# Altium footprint library UA78M05CKVURG3.PcbLib: 3 footprints
Each footprint in its own frame and in the unit in brackets; x right, y up, seen from the top. Pads: shape width x height; smd on the part's side, far side on the other; paste and mask are expansions set on the pad; w line width, h text height; cw(c..) or ccw(c..) is an arc to the next point about the centre after c.
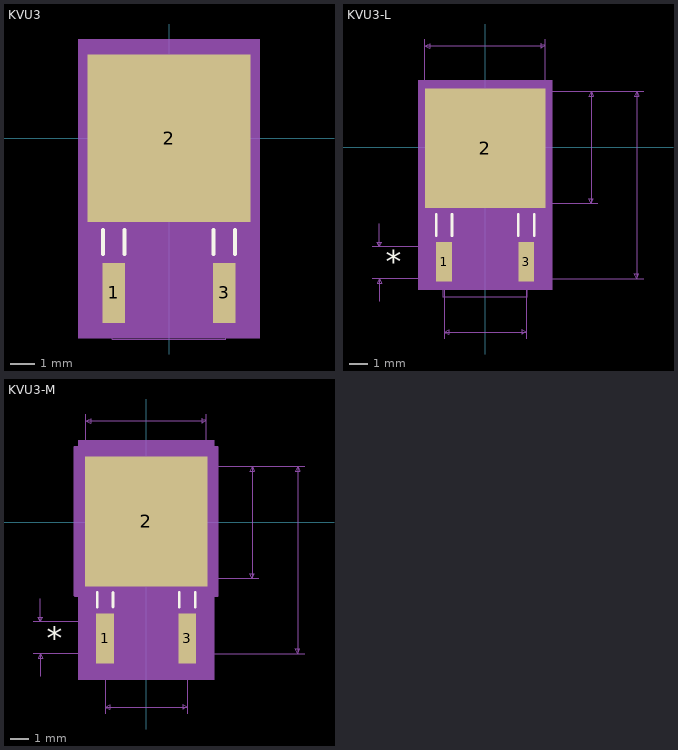
[diagram p0: the footprints below, top view; thin cyan lines are the x and y axes]

## KVU3 [mil]
pads (3):
  rect 37x98 smd paste+0 mask+0: 1(-90,-252.5) 3(90,-252.5)
  rect 266x273 smd paste+0 mask+0: 2(0,0)
Top Overlay:
  lines w6: -107.5,-189.5 -107.5,-149.6 ; -72.5,-189.5 -72.5,-149.6 ; 72.5,-189.5 72.5,-149.6 ; 107.5,-189.5 107.5,-149.6
Mechanical 5:
  region: -148,161.5 148,161.5 148,-326.5 -148,-326.5
Mechanical 13:
  lines w1: -92.5,-122.5 -92.5,-327.5 92.5,-327.5 92.5,-122.5 ; -132,-122.5 -132,122.5 132,122.5 132,-122.5 -132,-122.5 ; -107.5,-287.5 -72.5,-287.5 -72.5,-122.5 -107.5,-122.5 -107.5,-287.5 ; 72.5,-287.5 107.5,-287.5 107.5,-122.5 72.5,-122.5 72.5,-287.5
  text "*" at -102.5,-137.5 h50
Mechanical 15:
  region: -117.5,-146.5 -144,-146.5 -144,146.5 144,146.5 144,-146.5 117.5,-146.5 117.5,-311.5 62.5,-311.5 62.5,-213.5 -62.5,-213.5 -62.5,-311.5 -117.5,-311.5
  lines w6: -144,-146.5 -117.5,-146.5 -117.5,-311.5 -62.5,-311.5 -62.5,-213.5 62.5,-213.5 62.5,-311.5 117.5,-311.5 117.5,-146.5 144,-146.5 144,146.5 -144,146.5 -144,-146.5
3D body: height 10, standoff 0, extent 0,0 10,10

## KVU3-L [mil]
pads (3):
  rect 35x86 smd paste+0 mask+0: 1(-90,-250.5) 3(90,-250.5)
  rect 264x261 smd paste+0 mask+0: 2(0,-2)
Top Overlay:
  lines w6: -107.5,-193.5 -107.5,-146.5 ; -72.5,-193.5 -72.5,-146.5 ; 72.5,-193.5 72.5,-146.5 ; 107.5,-193.5 107.5,-146.5
  text "*" at -217.5,-275.5 h50
Mechanical 5:
  region: -147,147.5 147,147.5 147,-312.5 -147,-312.5
Mechanical 7:
  lines w1: -247,-287.5 0,-287.5 347,-287.5 ; -247,-217.5 0,-217.5 ; -232,-337.5 -232,-287.5 ; -232,-167.5 -232,-217.5 ; -132,0 -132,237.5 ; -90,-420 -90,-205 ; 0,-122.5 247,-122.5 ; 90,-420 90,-205 ; 132,0 132,237.5 ; 247,122.5 0,122.5 347,122.5 ; -232,-287.5 -237,-297.5 -227,-297.5 -232,-287.5 ; -232,-217.5 -237,-207.5 -227,-207.5 -232,-217.5 ; -132,222.5 132,222.5 ; -132,222.5 -122,227.5 -122,217.5 -132,222.5 ; -90,-405 90,-405 ; -90,-405 -80,-400 -80,-410 -90,-405 ; 90,-405 80,-400 80,-410 90,-405 ; 132,222.5 122,227.5 122,217.5 132,222.5 ; 232,-122.5 232,122.5 ; 232,-122.5 227,-112.5 237,-112.5 232,-122.5 ; 232,122.5 227,112.5 237,112.5 232,122.5 ; 332,-287.5 332,122.5 ; 332,-287.5 327,-277.5 337,-277.5 332,-287.5 ; 332,122.5 327,112.5 337,112.5 332,122.5
  text "Default Padstyle: RX35Y86D0T" at -350,-637.5 h50
  text "Large Padstyle: RX264Y261D0T" at -350,-712.5 h50
  text "Alt 1 Padstyle: OX60Y90D30P" at -337.5,-787.5 h50
  text "Alt 2 Padstyle: OX90Y60D30P" at -337.5,-862.5 h50
  text "0.245in/6.223mm" at 252,-12.5 h25
  text "0.264in/6.706mm" at -93.75,242.5 h25
  text "0.41in/10.414mm" at 352,-140.5 h25
  text "0.07in/1.778mm" at -427,-265 h25
  text "0.18in/4.572mm" at -87.5,-450 h25
Mechanical 13:
  lines w1: -92.5,-122.5 -92.5,-327.5 92.5,-327.5 92.5,-122.5 ; -132,-122.5 132,-122.5 132,122.5 -132,122.5 -132,-122.5 ; -107.5,-287.5 -107.5,-122.5 -72.5,-122.5 -72.5,-287.5 -107.5,-287.5 ; 72.5,-287.5 72.5,-122.5 107.5,-122.5 107.5,-287.5 72.5,-287.5
  text "*" at -102.5,-137.5 h50
Mechanical 15:
  region: -111.5,-136.5 -136,-136.5 -136,132.5 136,132.5 136,-136.5 111.5,-136.5 111.5,-297.5 68.5,-297.5 68.5,-211.5 -68.5,-211.5 -68.5,-297.5 -111.5,-297.5
  lines w6: -136,-136.5 -136,132.5 136,132.5 136,-136.5 111.5,-136.5 111.5,-297.5 68.5,-297.5 68.5,-211.5 -68.5,-211.5 -68.5,-297.5 -111.5,-297.5 -111.5,-136.5 -136,-136.5
3D body: height 10, standoff 0, extent 0,0 10,10

## KVU3-M [mil]
pads (3):
  rect 39x110 smd paste+0 mask+0: 1(-90,-254.5) 3(90,-254.5)
  rect 268x285 smd paste+0 mask+0: 2(0,2)
Top Overlay:
  lines w6: -107.5,-185.5 -107.5,-153.6 ; -72.5,-185.5 -72.5,-153.6 ; 72.5,-185.5 72.5,-153.6 ; 107.5,-185.5 107.5,-153.6
  text "*" at -217.5,-279.5 h50
Mechanical 5:
  region: -149,179.5 149,179.5 149,-344.5 -149,-344.5
Mechanical 7:
  lines w1: -247,-287.5 0,-287.5 347,-287.5 ; -247,-217.5 0,-217.5 ; -232,-337.5 -232,-287.5 ; -232,-167.5 -232,-217.5 ; -132,0 -132,237.5 ; -90,-420 -90,-205 ; 0,-122.5 247,-122.5 ; 90,-420 90,-205 ; 132,0 132,237.5 ; 247,122.5 0,122.5 347,122.5 ; -232,-287.5 -237,-297.5 -227,-297.5 -232,-287.5 ; -232,-217.5 -237,-207.5 -227,-207.5 -232,-217.5 ; -132,222.5 132,222.5 ; -132,222.5 -122,227.5 -122,217.5 -132,222.5 ; -90,-405 90,-405 ; -90,-405 -80,-400 -80,-410 -90,-405 ; 90,-405 80,-400 80,-410 90,-405 ; 132,222.5 122,227.5 122,217.5 132,222.5 ; 232,-122.5 232,122.5 ; 232,-122.5 227,-112.5 237,-112.5 232,-122.5 ; 232,122.5 227,112.5 237,112.5 232,122.5 ; 332,-287.5 332,122.5 ; 332,-287.5 327,-277.5 337,-277.5 332,-287.5 ; 332,122.5 327,112.5 337,112.5 332,122.5
  text "Default Padstyle: RX39Y110D0T" at -362.5,-637.5 h50
  text "Large Padstyle: RX268Y285D0T" at -350,-712.5 h50
  text "Alt 1 Padstyle: OX60Y90D30P" at -337.5,-787.5 h50
  text "Alt 2 Padstyle: OX90Y60D30P" at -337.5,-862.5 h50
  text "0.245in/6.223mm" at 252,-12.5 h25
  text "0.264in/6.706mm" at -93.75,242.5 h25
  text "0.41in/10.414mm" at 352,-144.5 h25
  text "0.07in/1.778mm" at -427,-265 h25
  text "0.18in/4.572mm" at -87.5,-450 h25
Mechanical 13:
  lines w1: -92.5,-122.5 -92.5,-327.5 92.5,-327.5 92.5,-122.5 ; -132,-122.5 132,-122.5 132,122.5 -132,122.5 -132,-122.5 ; -107.5,-287.5 -107.5,-122.5 -72.5,-122.5 -72.5,-287.5 -107.5,-287.5 ; 72.5,-287.5 72.5,-122.5 107.5,-122.5 107.5,-287.5 72.5,-287.5
  text "*" at -102.5,-137.5 h50
Mechanical 15:
  region: -127.5,-160.5 -156,-160.5 -156,164.5 156,164.5 156,-160.5 127.5,-160.5 127.5,-329.5 52.5,-329.5 52.5,-219.5 -52.5,-219.5 -52.5,-329.5 -127.5,-329.5
  lines w6: -156,-160.5 -156,164.5 156,164.5 156,-160.5 127.5,-160.5 127.5,-329.5 52.5,-329.5 52.5,-219.5 -52.5,-219.5 -52.5,-329.5 -127.5,-329.5 -127.5,-160.5 -156,-160.5
3D body: height 10, standoff 0, extent 0,0 10,10